# EAGLE library part GYRO (library traktor)
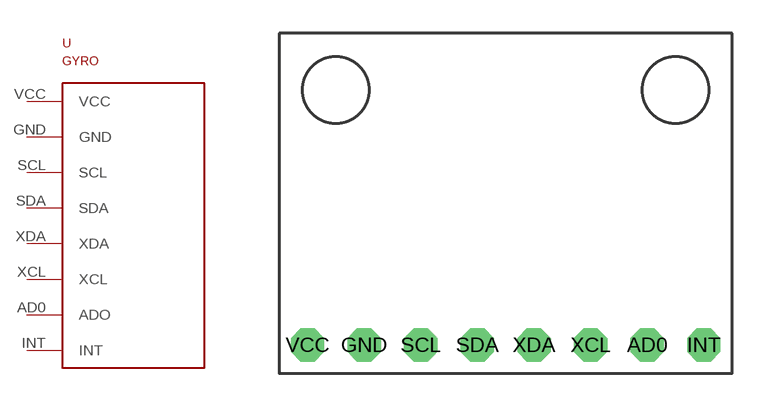
[diagram p2: symbol with the pads of GYRO; footprint GYRO]

Designator prefix -

## GYRO  [GYRO]
AD0  ADO
GND  GND
INT  INT
SCL  SCL
SDA  SDA
VCC  VCC
XCL  XCL
XDA  XDA

## Footprint GYRO (pad centres in mm)
drill 0.8 pad 1.5 octagon: AD0 6.35,-6.35; GND -6.35,-6.35; INT 8.89,-6.35; SCL -3.81,-6.35; SDA -1.27,-6.35; VCC -8.89,-6.35; XCL 3.81,-6.35; XDA 1.27,-6.35